# EAGLE library part A4985SLPTR-T (library laztech_parts)
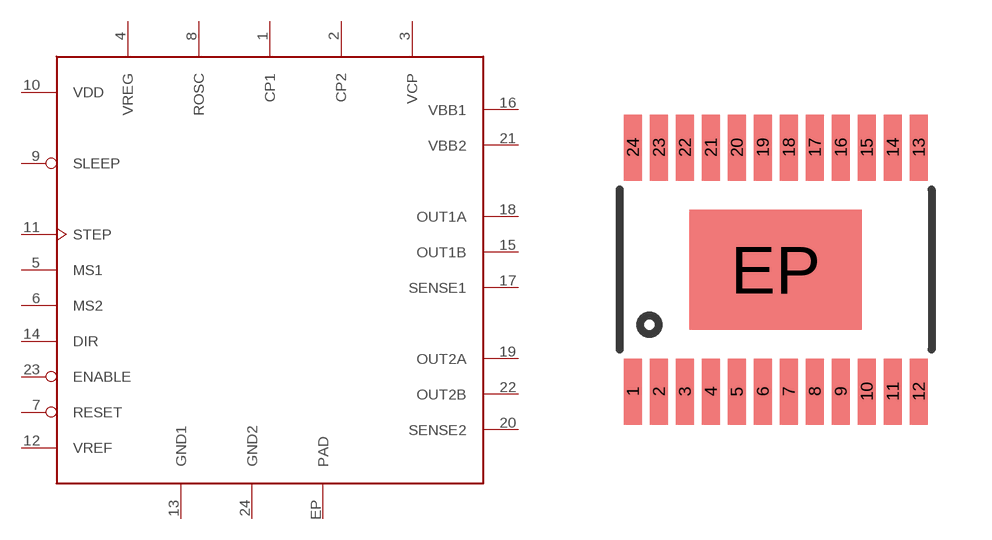
[diagram p0: symbol with the pads of ETSSOP-24; footprint ETSSOP-24]

Designator prefix -

## A4985SLPTR-T  [ETSSOP-24]
1  CP1
2  CP2
3  VCP
4  VREG
5  MS1  in
6  MS2  in
7  RESET  in
8  ROSC
9  SLEEP  in
10  VDD  pwr
11  STEP  in
12  VREF  in
13  GND1  sup
14  DIR  in
15  OUT1B
16  VBB1
17  SENSE1
18  OUT1A
19  OUT2A
20  SENSE2
21  VBB2
22  OUT2B
23  ENABLE  in
24  GND2  sup
EP  PAD  sup

## Footprint ETSSOP-24 (pad centres in mm)
smd 0.45 x 1.65: 1 -3.575,-3.05; 2 -2.925,-3.05; 3 -2.275,-3.05; 4 -1.625,-3.05; 5 -0.975,-3.05; 6 -0.325,-3.05; 7 0.325,-3.05; 8 0.975,-3.05; 9 1.625,-3.05; 10 2.275,-3.05; 11 2.925,-3.05; 12 3.575,-3.05; 13 3.575,3.05; 14 2.925,3.05; 15 2.275,3.05; 16 1.625,3.05; 17 0.975,3.05; 18 0.325,3.05; 19 -0.325,3.05; 20 -0.975,3.05; 21 -1.625,3.05; 22 -2.275,3.05; 23 -2.925,3.05; 24 -3.575,3.05
smd 4.32 x 3: EP 0,0